# EAGLE library part 1X6_PROG_HEADER (library 1x6_prog_header)
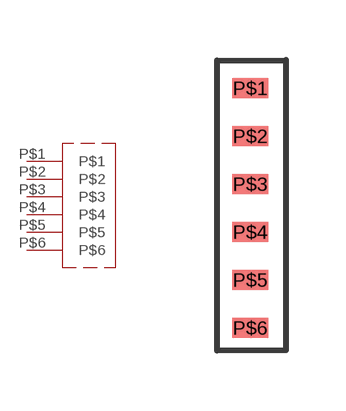
[diagram p0: symbol with the pads of 1X6_SMD_HEADER_PADS; footprint 1X6_SMD_HEADER_PADS]

Designator prefix -

## 1X6_PROG_HEADER  [1X6_SMD_HEADER_PADS]
P$1  P$1
P$2  P$2
P$3  P$3
P$4  P$4
P$5  P$5
P$6  P$6

## Footprint 1X6_SMD_HEADER_PADS (pad centres in mm)
smd 0.9 x 0.5: P$1 0,0; P$2 0,-1.2; P$3 0,-2.4; P$4 0,-3.6; P$5 0,-4.8; P$6 0,-6